# Altium schematic symbol library KF128.SchLib: 15 symbols
Pins are listed as number, name and electrical type; pins without a type are passive.

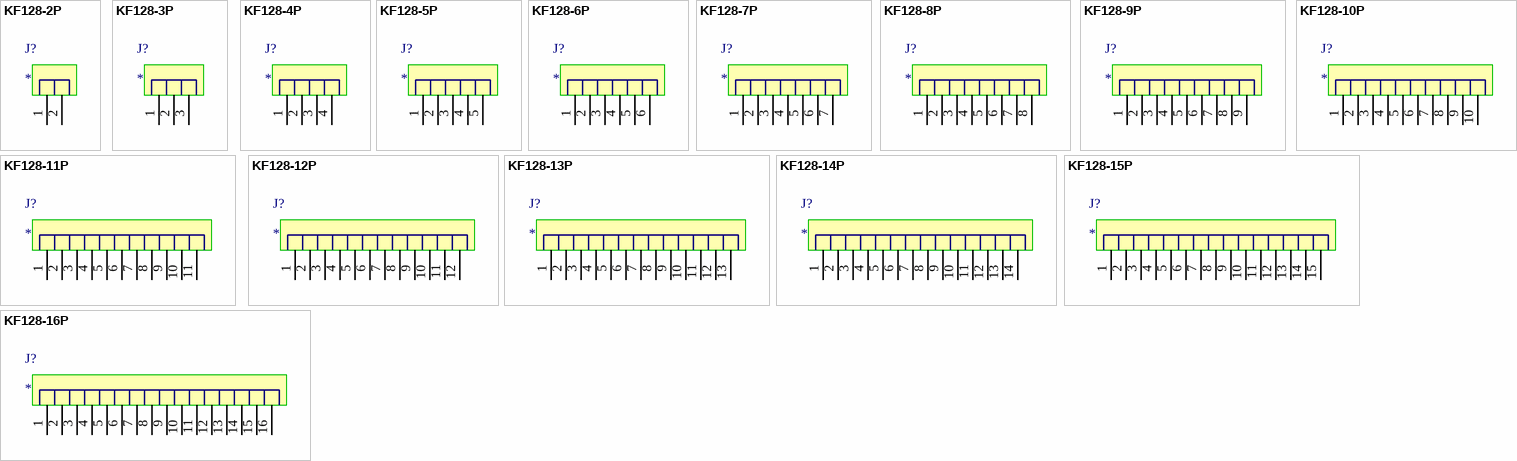
[diagram p0: symbols KF128-2P to KF128-16P]

## KF128-2P
designator J?
pins: 1, 2

## KF128-3P
designator J?
pins: 1, 2, 3

## KF128-4P
designator J?
pins: 1, 2, 3, 4

## KF128-5P
designator J?
pins: 1, 2, 3, 4, 5

## KF128-6P
designator J?
pins: 1, 2, 3, 4, 5, 6

## KF128-7P
designator J?
pins: 1, 2, 3, 4, 5, 6, 7

## KF128-8P
designator J?
pins: 1, 2, 3, 4, 5, 6, 7, 8

## KF128-9P
designator J?
pins: 1, 2, 3, 4, 5, 6, 7, 8, 9

## KF128-10P
designator J?
pins: 1, 2, 3, 4, 5, 6, 7, 8, 9, 10

## KF128-11P
designator J?
pins: 1, 2, 3, 4, 5, 6, 7, 8, 9, 10, 11

## KF128-12P
designator J?
pins: 1, 2, 3, 4, 5, 6, 7, 8, 9, 10, 11, 12

## KF128-13P
designator J?
pins: 1, 2, 3, 4, 5, 6, 7, 8, 9, 10, 11, 12, 13

## KF128-14P
designator J?
pins: 1, 2, 3, 4, 5, 6, 7, 8, 9, 10, 11, 12, 13, 14

## KF128-15P
designator J?
pins: 1, 2, 3, 4, 5, 6, 7, 8, 9, 10, 11, 12, 13, 14, 15

## KF128-16P
designator J?
pins: 1, 2, 3, 4, 5, 6, 7, 8, 9, 10, 11, 12, 13, 14, 15, 16